# Altium footprint library Library_pcb.PcbLib: 80 footprints (part 4 of 5)
Each footprint in its own frame and in the unit in brackets; x right, y up, seen from the top. Pads: shape width x height; smd on the part's side, far side on the other; paste and mask are expansions set on the pad; w line width, h text height; cw(c..) or ccw(c..) is an arc to the next point about the centre after c.
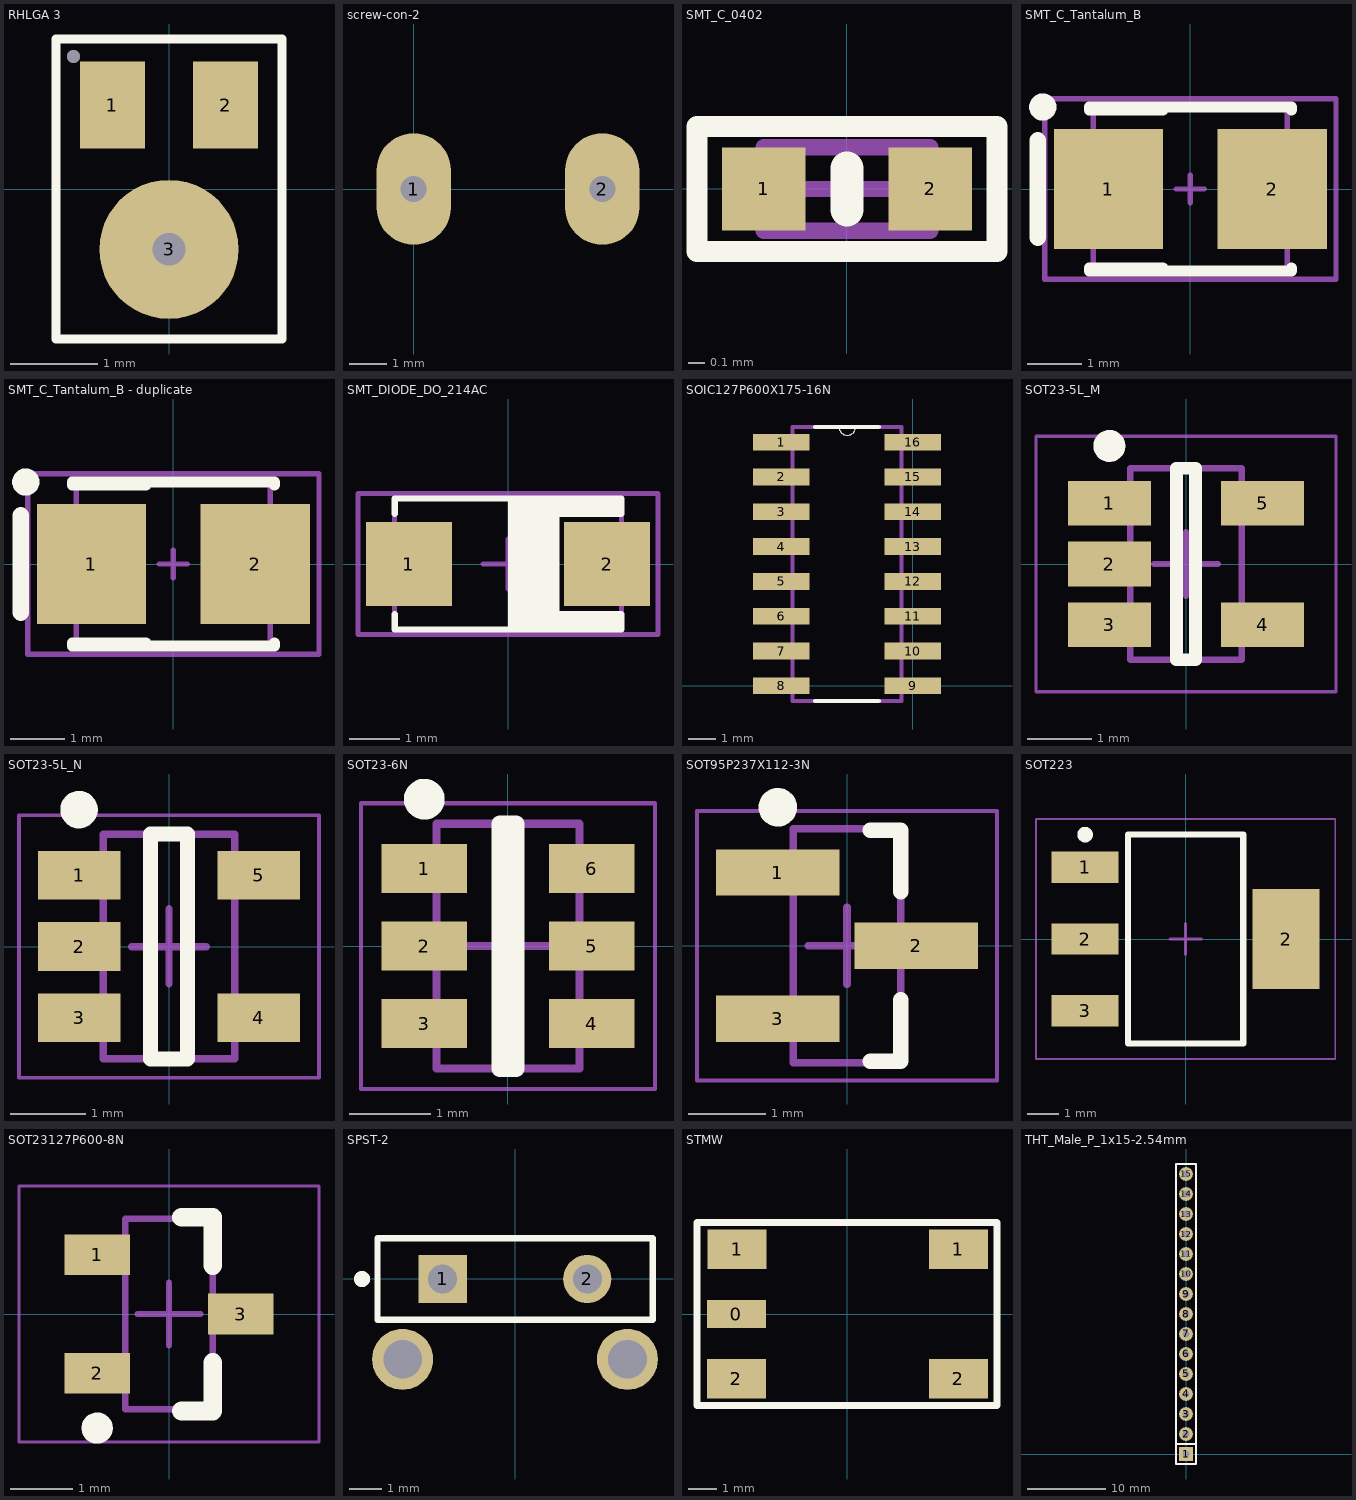
[diagram p3: the footprints below, top view; thin cyan lines are the x and y axes]

## RHLGA 3 [mm]
pads (3):
  rect 0.75x1 smd: 1(-0.65,0.965) 2(0.65,0.965)
  round 1.6 hole 0.375: 3(0,-0.695)
via -1.1,1.525 diameter 0.15 hole 0.15
Top Overlay:
  lines w0.1: -1.3,-1.725 -1.3,0 -1.3,1.725 1.3,1.725 1.3,0 1.3,-1.725 -1.3,-1.725

## screw-con-2 [mm] "2.54"
pads (2):
  oval 2x3 hole 0.7: 1(0,0) 2(5.08,0)
3D body "connector.STEP": height 10.2, standoff -3.72, extent -2.46,-3.736 7.54,4.064

## SMT_C_0402 [mil] "Surface mount capacitor 0402"
height 11.81
pads (2):
  rect 20x20 smd: 1(-20,0) 2(20,0)
Top Overlay:
  lines w5: -36,-15 36,-15 36,15 -36,15 -36,-15
  lines w8: 0,-5 0,5
Mechanical 13:
  lines w3.94: -20,-10 20,-10 20,10 -20,10 -20,-10
Mechanical 15:
  lines w3.94: -10,0 10,0 ; 0,-10 0,10 ; -36,-15 36,-15 36,15 -36,15 -36,-15
3D body "User Library-0402(1005M) Cap.step": height 20.1, standoff 0, extent -20,-10 20,10

## SMT_C_Tantalum_B [mm] "Capacitor, SM Tantalum; Body 3.5 x 2.8 mm (LxW typ)"
height 2.1
pads (2):
  rect 2x2.2 smd: 1(-1.5,0) 2(1.5,0)
Top Overlay:
  circle w0.25: c-2.7,1.5 r0.125
  lines w0.2: -1.85,-1.5 1.85,-1.5 1.85,-1.45 ; -1.85,-1.45 -0.5,-1.45 ; -1.85,1.45 -0.5,1.45 ; -1.85,1.5 1.85,1.5 1.85,1.45
  lines w0.305: -2.794,-0.889 -2.794,0.889
Mechanical 13:
  lines w0.1: -1.778,-1.524 -1.778,1.524 1.778,1.524 1.778,-1.524 -1.778,-1.524
Mechanical 15:
  lines w0.1: -0.254,0 0.254,0 ; 0,-0.254 0,0.254 ; -2.667,-1.651 2.667,-1.651 2.667,1.651 -2.667,1.651 -2.667,-1.651
3D body "User Library-Cap-Tantalum-Case-B-3528-21.step": height 1.9, standoff 0, extent -1.75,-1.403 1.75,1.397

## SMT_C_Tantalum_B - duplicate [mm] "Capacitor, SM Tantalum; Body 3.5 x 2.8 mm (LxW typ)"
height 2.1
pads (2):
  rect 2x2.2 smd: 1(-1.5,0) 2(1.5,0)
Top Overlay:
  circle w0.25: c-2.7,1.5 r0.125
  lines w0.2: -1.85,-1.5 1.85,-1.5 1.85,-1.45 ; -1.85,-1.45 -0.5,-1.45 ; -1.85,1.45 -0.5,1.45 ; -1.85,1.5 1.85,1.5 1.85,1.45
  lines w0.305: -2.794,-0.889 -2.794,0.889
Mechanical 13:
  lines w0.1: -1.778,-1.524 -1.778,1.524 1.778,1.524 1.778,-1.524 -1.778,-1.524
Mechanical 15:
  lines w0.1: -0.254,0 0.254,0 ; 0,-0.254 0,0.254 ; -2.667,-1.651 2.667,-1.651 2.667,1.651 -2.667,1.651 -2.667,-1.651
3D body "User Library-Cap-Tantalum-Case-B-3528-21.step": height 1.9, standoff 0, extent -1.75,-1.403 1.75,1.397

## SMT_DIODE_DO_214AC [mm] "DO-214AC(SMA) Package"
height 2.438
pads (2):
  rect 1.7x1.67 smd: 1(-1.965,0) 2(1.965,0)
Top Overlay:
  rectangle: 0,-1.3 2.25,-0.936
  region: 2.25,1.3 0,1.3 0,0.936 2.25,0.936
  region: 0,1.3 0,-1.3 1.025,-1.3 1.025,1.3
  lines w0.127: -2.25,-1 -2.25,-1.3 2.25,-1.3 2.25,-1 ; -2.25,1 -2.25,1.3 2.25,1.3 2.25,1
Mechanical 13:
  lines w0.1: -2.25,-1.3 -2.25,1.3 2.25,1.3 2.25,-1.3 -2.25,-1.3
Mechanical 15:
  lines w0.1: -0.5,0 0.5,0 ; 0,-0.5 0,0.5 ; -2.975,-1.4 -2.975,1.4 2.975,1.4 2.975,-1.4 -2.975,-1.4
3D body "User Library-DO-214AC SMA.step": height 2.35, standoff -0.05, extent -2.6,-1.3 2.6,1.3

## SOIC127P600X175-16N [mil]
pads (16):
  rect 81x24 smd paste-1000 mask-1000: 1(-189,350) 2(-189,300) 3(-189,250) 4(-189,200) 5(-189,150) 6(-189,100) 7(-189,50) 8(-189,0) 9(0,0) 10(0,50) 11(0,100) 12(0,150) 13(0,200) 14(0,250) 15(0,300) 16(0,350)
Top Overlay:
  lines w0: -106,372 ccw(c-94,372) -82,372
  lines w6: -140,-22 -49,-22 ; -140,372 -106,372 -82,372 -49,372
Top Paste:
  region: -229.5,338 -148.5,338 -148.5,362 -229.5,362
  region: -229.5,288 -148.5,288 -148.5,312 -229.5,312
  region: -229.5,238 -148.5,238 -148.5,262 -229.5,262
  region: -229.5,188 -148.5,188 -148.5,212 -229.5,212
  region: -229.5,138 -148.5,138 -148.5,162 -229.5,162
  region: -229.5,88 -148.5,88 -148.5,112 -229.5,112
  region: -229.5,38 -148.5,38 -148.5,62 -229.5,62
  region: -229.5,-12 -148.5,-12 -148.5,12 -229.5,12
  region: -40.5,-12 40.5,-12 40.5,12 -40.5,12
  region: -40.5,38 40.5,38 40.5,62 -40.5,62
  region: -40.5,88 40.5,88 40.5,112 -40.5,112
  region: -40.5,138 40.5,138 40.5,162 -40.5,162
  region: -40.5,188 40.5,188 40.5,212 -40.5,212
  region: -40.5,238 40.5,238 40.5,262 -40.5,262
  region: -40.5,288 40.5,288 40.5,312 -40.5,312
  region: -40.5,338 40.5,338 40.5,362 -40.5,362
Top Solder:
  region: -233.44,334.06 -144.56,334.06 -144.56,365.94 -233.44,365.94
  region: -233.44,284.06 -144.56,284.06 -144.56,315.94 -233.44,315.94
  region: -233.44,234.06 -144.56,234.06 -144.56,265.94 -233.44,265.94
  region: -233.44,184.06 -144.56,184.06 -144.56,215.94 -233.44,215.94
  region: -233.44,134.06 -144.56,134.06 -144.56,165.94 -233.44,165.94
  region: -233.44,84.06 -144.56,84.06 -144.56,115.94 -233.44,115.94
  region: -233.44,34.06 -144.56,34.06 -144.56,65.94 -233.44,65.94
  region: -233.44,-15.94 -144.56,-15.94 -144.56,15.94 -233.44,15.94
  region: -44.44,-15.94 44.44,-15.94 44.44,15.94 -44.44,15.94
  region: -44.44,34.06 44.44,34.06 44.44,65.94 -44.44,65.94
  region: -44.44,84.06 44.44,84.06 44.44,115.94 -44.44,115.94
  region: -44.44,134.06 44.44,134.06 44.44,165.94 -44.44,165.94
  region: -44.44,184.06 44.44,184.06 44.44,215.94 -44.44,215.94
  region: -44.44,234.06 44.44,234.06 44.44,265.94 -44.44,265.94
  region: -44.44,284.06 44.44,284.06 44.44,315.94 -44.44,315.94
  region: -44.44,334.06 44.44,334.06 44.44,365.94 -44.44,365.94
Mechanical 1:
  lines w0: -106,372 ccw(c-94,372) -82,372
  lines w6: -189,0 -173,0 ; -189,50 -173,50 ; -189,100 -173,100 ; -189,150 -173,150 ; -189,200 -173,200 ; -189,250 -173,250 ; -189,300 -173,300 ; -189,350 -173,350 ; -16,0 0,0 ; -16,50 0,50 ; -16,100 0,100 ; -16,150 0,150 ; -16,200 0,200 ; -16,250 0,250 ; -16,300 0,300 ; -16,350 0,350 ; -173,-22 -16,-22 -16,372 -82,372 -106,372 -173,372 -173,-22

## SOT23-5L_M [mm] "SOT23, 5-Leads, Body 2.9x1.6mm, Pitch 0.95mm, Lead Span 2.8mm, IPC Low Density"
height 1.45
pads (5):
  rect 1.3x0.7 smd: 1(-1.2,0.95) 2(-1.2,0) 3(-1.2,-0.95) 4(1.2,-0.95) 5(1.2,0.95)
Top Overlay:
  circle w0.25: c-1.2,1.85 r0.125
  lines w0.2: -0.15,-1.5 -0.15,1.5 0.15,1.5 0.15,-1.5 -0.15,-1.5
Mechanical 13:
  lines w0.1: -0.875,-1.5 0.875,-1.5 0.875,1.5 -0.875,1.5 -0.875,-1.5
Mechanical 15:
  lines w0.05: -2.35,-2 2.35,-2 2.35,2 -2.35,2 -2.35,-2
  lines w0.1: -0.5,0 0.5,0 ; 0,-0.5 0,0.5
3D body: height 1.45, standoff 0, extent -0.875,-1.5 0.875,1.5

## SOT23-5L_N [mm] "SOT23, 5-Leads, Body 2.9x1.6mm, Pitch 0.95mm, Lead Span 2.8mm, IPC Medium Density"
height 1.45
pads (5):
  rect 1.1x0.65 smd: 1(-1.2,0.95) 2(-1.2,0) 3(-1.2,-0.95) 4(1.2,-0.95) 5(1.2,0.95)
Top Overlay:
  circle w0.25: c-1.2,1.825 r0.125
  lines w0.2: -0.25,-1.5 0.25,-1.5 0.25,1.5 -0.25,1.5 -0.25,-1.5
Mechanical 13:
  lines w0.1: -0.875,-1.5 -0.875,1.5 0.875,1.5 0.875,-1.5 -0.875,-1.5
Mechanical 15:
  lines w0.05: -2,-1.75 -2,1.75 2,1.75 2,-1.75 -2,-1.75
  lines w0.1: -0.5,0 0.5,0 ; 0,-0.5 0,0.5
3D body: height 1.45, standoff 0, extent -0.875,-1.5 0.875,1.5

## SOT23-6N [mm] "SOT23, 6-Leads, Body 2,90x2,45mm, Pitch 0,95mm, IPC Medium Density"
height 1.45
pads (6):
  rect 1.05x0.6 smd: 1(-1.025,0.95) 2(-1.025,0) 3(-1.025,-0.95) 4(1.025,-0.95) 5(1.025,0) 6(1.025,0.95)
Top Overlay:
  circle w0.25: c-1.025,1.8 r0.125
  lines w0.2: -0.1,-1.5 -0.1,1.5 0.1,1.5 0.1,-1.5 -0.1,-1.5
Mechanical 13:
  lines w0.1: -0.875,-1.5 0.875,-1.5 0.875,1.5 -0.875,1.5 -0.875,-1.5
Mechanical 15:
  lines w0.05: -1.8,-1.75 1.8,-1.75 1.8,1.75 -1.8,1.75 -1.8,-1.75
  lines w0.1: -0.5,0 0.5,0 ; 0,-0.5 0,0.5
3D body: height 1.45, standoff 0.25, extent -0.875,-1.5 0.875,1.5

## SOT95P237X112-3N [mm] "SOT23, 3-Leads, Body 2.92x2.37mm, Pitch 0.95mm, IPC Medium Density"
height 1.12
pads (3):
  rect 1.6x0.6 smd: 1(-0.9,0.95) 2(0.9,0) 3(-0.9,-0.95)
Top Overlay:
  circle w0.25: c-0.9,1.8 r0.125
  lines w0.2: 0.3,-1.5 0.7,-1.5 0.7,-0.7 ; 0.3,1.5 0.7,1.5 0.7,0.7
Mechanical 13:
  lines w0.1: -0.7,-1.52 -0.7,1.52 0.7,1.52 0.7,-1.52 -0.7,-1.52
Mechanical 15:
  lines w0.05: -1.95,-1.75 -1.95,1.75 1.95,1.75 1.95,-1.75 -1.95,-1.75
  lines w0.1: -0.5,0 0.5,0 ; 0,-0.5 0,0.5
3D body: height 1.12, standoff 0.01, extent -0.7,-1.52 0.7,1.52

## SOT223 [mm] "SOT223, 4-Leads, Body 6.5x3.5mm, Pitch 2.3mm, IPC Low Density"
height 1.8
pads (4):
  rect 2.15x1 smd: 1(-3.225,2.3) 2(-3.225,0) 3(-3.225,-2.3)
  rect 2.15x3.2 smd: 2(3.225,0)
Top Overlay:
  circle w0.25: c-3.225,3.35 r0.125
  lines w0.2: -1.85,-3.35 -1.85,3.35 1.85,3.35 1.85,-3.35 -1.85,-3.35
Mechanical 13:
  lines w0.1: -1.85,-3.35 -1.85,3.35 1.85,3.35 1.85,-3.35 -1.85,-3.35
Mechanical 15:
  lines w0.05: -4.8,-3.85 -4.8,3.85 4.8,3.85 4.8,-3.85 -4.8,-3.85
  lines w0.1: -0.5,0 0.5,0 ; 0,-0.5 0,0.5
3D body: height 1.8, standoff 0.02, extent -1.85,-3.35 1.85,3.35

## SOT23127P600-8N [mm] "MCP1700T-3302E/TT"
height 1.12
pads (3):
  rect 1.05x0.65 smd: 1(-1.15,0.95) 2(-1.15,-0.95) 3(1.15,0)
Top Overlay:
  circle w0.25: c-1.15,-1.825 r0.125
  lines w0.3: 0.2,-1.55 0.7,-1.55 0.7,-0.775 ; 0.2,1.55 0.7,1.55 0.7,0.775
Mechanical 13:
  lines w0.1: -0.7,-1.525 0.7,-1.525 0.7,1.525 -0.7,1.525 -0.7,-1.525
Mechanical 15:
  lines w0.05: -2.4,-2.05 2.4,-2.05 2.4,2.05 -2.4,2.05 -2.4,-2.05
  lines w0.1: -0.5,0 0.5,0 ; 0,-0.5 0,0.5
3D body: height 1.12, standoff 0.1, extent -0.7,-1.525 0.7,1.525

## SPST-2 [mm] "Switch; 2 Leads"
pads (4):
  rect 1.5x1.5 hole 0.9: 1(-2.25,0)
  round 1.5 hole 0.9: 2(2.25,0)
  round 1.9 hole 1.2: ""(-3.5,-2.5) ""(3.5,-2.5)
Top Overlay:
  circle w0.25: c-4.761,-0.001 r0.125
  lines w0.2: -4.28,-1.27 4.28,-1.27 4.28,1.27 -4.28,1.27 -4.28,-1.27

## STMW [mm]
pads (5):
  rect 2.1x1 smd: 0(-3.938,0)
  rect 2.1x1.4 smd: 1(-3.912,2.3) 1(3.962,2.3) 2(-3.938,-2.3) 2(3.962,-2.3)
Top Overlay:
  lines w0.254: -5.338,-3.25 -5.338,3.25 5.338,3.25 5.338,-3.25 -5.338,-3.25

## THT_Male_P_1x15-2.54mm [mil] "THT Male pin header strip 1x15 2.54mm pitch"
height 450
pads (15):
  rect 69x69 hole 35: 1(0,0)
  round 69 hole 35: 2(0,100) 3(0,200) 4(0,300) 5(0,400) 6(0,500) 7(0,600) 8(0,700) 9(0,800) 10(0,900) 11(0,1000) 12(0,1100) 13(0,1200) 14(0,1300) 15(0,1400)
Top Overlay:
  lines w7.87: -50,50 50,50 ; -50,-50 -50,1450 50,1450 50,-50 -50,-50
3D body "User Library-Male-Pin Header Strip-1x1-2.54mm.step": height 335, standoff -145, extent -57.48,650 57.48,750
3D body "User Library-Male-Pin Header Strip-1x1-2.54mm.step": height 335, standoff -145, extent -57.48,750 57.48,850
3D body "User Library-Male-Pin Header Strip-1x1-2.54mm.step": height 335, standoff -145, extent -57.48,850 57.48,950
3D body "User Library-Male-Pin Header Strip-1x1-2.54mm.step": height 335, standoff -145, extent -57.48,550 57.48,650
3D body "User Library-Male-Pin Header Strip-1x1-2.54mm.step": height 335, standoff -145, extent -57.48,450 57.48,550
3D body "User Library-Male-Pin Header Strip-1x1-2.54mm.step": height 335, standoff -145, extent -57.48,150 57.48,250
3D body "User Library-Male-Pin Header Strip-1x1-2.54mm.step": height 335, standoff -145, extent -57.48,250 57.48,350
3D body "User Library-Male-Pin Header Strip-1x1-2.54mm.step": height 335, standoff -145, extent -57.48,350 57.48,450
3D body "User Library-Male-Pin Header Strip-1x1-2.54mm.step": height 335, standoff -145, extent -57.48,49.99 57.48,150
3D body "User Library-Male-Pin Header Strip-1x1-2.54mm.step": height 335, standoff -145, extent -57.48,-50.01 57.48,50
3D body "User Library-Male-Pin Header Strip-1x1-2.54mm.step": height 335, standoff -145, extent -57.48,950 57.48,1050
3D body "User Library-Male-Pin Header Strip-1x1-2.54mm.step": height 335, standoff -145, extent -57.48,1249.99 57.48,1350
3D body "User Library-Male-Pin Header Strip-1x1-2.54mm.step": height 335, standoff -145, extent -57.48,1149.99 57.48,1250
3D body "User Library-Male-Pin Header Strip-1x1-2.54mm.step": height 335, standoff -145, extent -57.48,1049.99 57.48,1150
3D body "User Library-Male-Pin Header Strip-1x1-2.54mm.step": height 335, standoff -145, extent -57.48,1349.99 57.48,1450